# Altium footprint library 2021-07-14_12-22-01.PcbLib: 1 footprints
Each footprint in its own frame and in the unit in brackets; x right, y up, seen from the top. Pads: shape width x height; smd on the part's side, far side on the other; paste and mask are expansions set on the pad; w line width, h text height; cw(c..) or ccw(c..) is an arc to the next point about the centre after c.
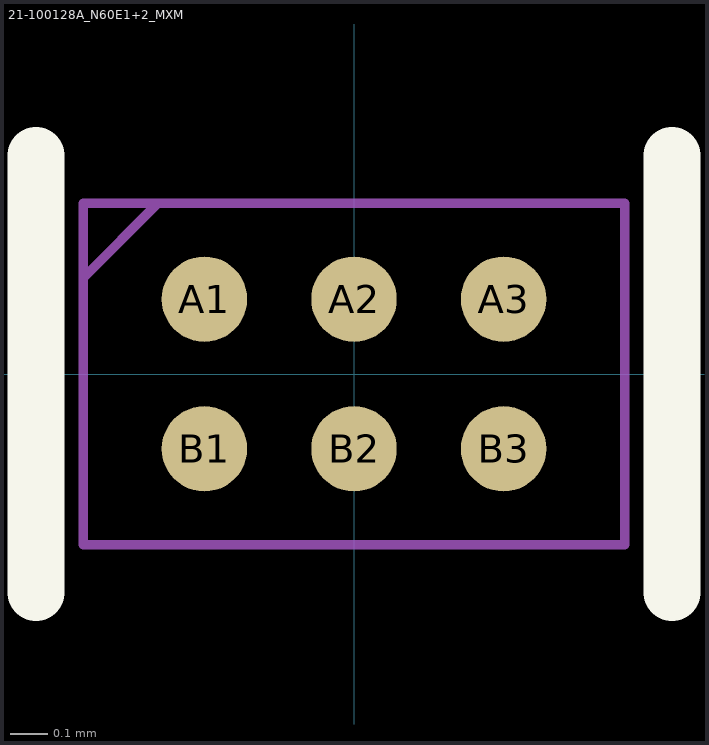
[diagram p0: the footprint, top view; thin cyan lines are the x and y axes]

## 21-100128A_N60E1+2_MXM [mil]
pads (6):
  round 9 smd paste+0 mask+0: A1(-15.75,7.87) A2(0,7.87) A3(15.75,7.87) B1(-15.75,-7.87) B2(0,-7.87) B3(15.75,-7.87)
Top Overlay:
  lines w6: -33.5,-23 -33.5,23 ; 33.5,-23 33.5,23
Mechanical 13:
  lines w1: -28.5,10.13 -20.63,18 ; -28.5,-18 28.5,-18 28.5,18 -28.5,18 -28.5,-18
3D body "21-100128A_N60E1+2_MXM.step": height 19.8, standoff -0.01, extent -28.5,-17.99 28.5,17.99